# Altium footprint library HCS2512FTL300CT-ND_DT.PcbLib: 1 footprints
Each footprint in its own frame and in the unit in brackets; x right, y up, seen from the top. Pads: shape width x height; smd on the part's side, far side on the other; paste and mask are expansions set on the pad; w line width, h text height; cw(c..) or ccw(c..) is an arc to the next point about the centre after c.
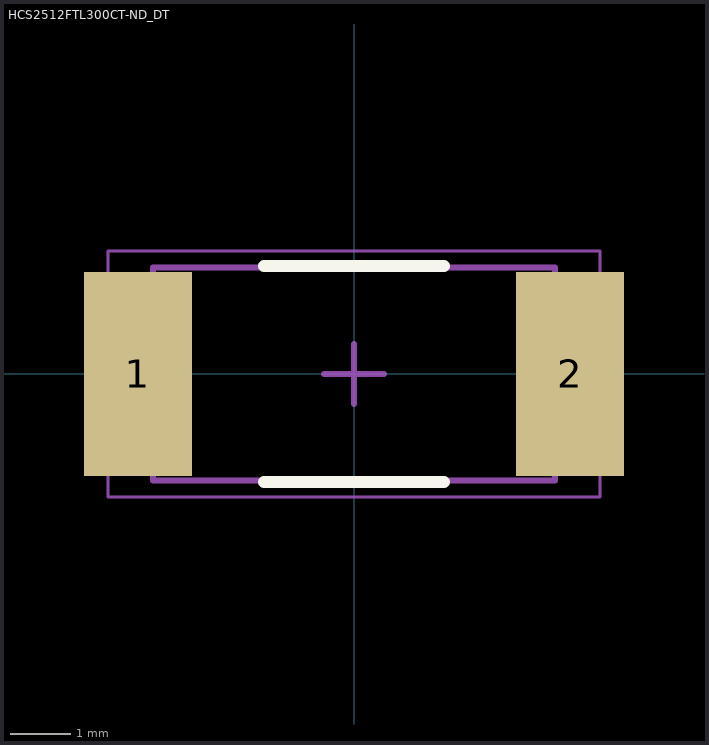
[diagram p0: the footprint, top view; thin cyan lines are the x and y axes]

## HCS2512FTL300CT-ND_DT [mm] "Molded Capacitor, 2-Leads, Body 6.50 x 3.25mm, IPC Medium Density"
height 0.91
pads (2):
  rect 1.8x3.4 smd: 1(-3.6,0) 2(3.6,0)
Top Overlay:
  lines w0.2: -1.5,-1.8 1.5,-1.8 ; -1.5,1.8 1.5,1.8
Mechanical 13:
  lines w0.1: -3.35,-1.775 -3.35,1.775 3.35,1.775 3.35,-1.775 -3.35,-1.775
Mechanical 15:
  lines w0.05: -4.1,-2.05 -4.1,2.05 4.1,2.05 4.1,-2.05 -4.1,-2.05
  lines w0.1: -0.5,0 0.5,0 ; 0,-0.5 0,0.5
3D body: height 0.91, standoff 0, extent -3.35,-1.775 3.35,1.775